# EAGLE library part PIC18(L)F26K22 (library PIC18)
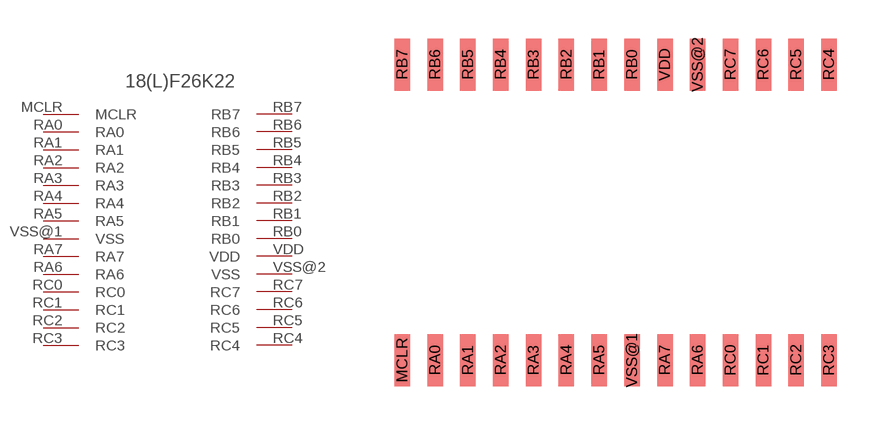
[diagram p0: symbol with the pads of 28-LEAD_SOIC; footprint 28-LEAD_SOIC]

Designator prefix -

## PIC18(L)F26K22  [28-LEAD_SOIC]
MCLR  MCLR  in
RA0  RA0
RA1  RA1
RA2  RA2
RA3  RA3
RA4  RA4
RA5  RA5
RA6  RA6
RA7  RA7
RB0  RB0
RB1  RB1
RB2  RB2
RB3  RB3
RB4  RB4
RB5  RB5
RB6  RB6
RB7  RB7
RC0  RC0
RC1  RC1
RC2  RC2
RC3  RC3
RC4  RC4
RC5  RC5
RC6  RC6
RC7  RC7
VDD  VDD  pwr
VSS@1  VSS  pwr
VSS@2  VSS  pwr

## Footprint 28-LEAD_SOIC (pad centres in mm)
smd 0.6 x 2: MCLR 0,0; RA0 1.27,0; RA1 2.54,0; RA2 3.81,0; RA3 5.08,0; RA4 6.35,0; RA5 7.62,0; RA6 11.43,0; RA7 10.16,0; RB0 8.89,11.43; RB1 7.62,11.43; RB2 6.35,11.43; RB3 5.08,11.43; RB4 3.81,11.43; RB5 2.54,11.43; RB6 1.27,11.43; RB7 0,11.43; RC0 12.7,0; RC1 13.97,0; RC2 15.24,0; RC3 16.51,0; RC4 16.51,11.43; RC5 15.24,11.43; RC6 13.97,11.43; RC7 12.7,11.43; VDD 10.16,11.43; VSS@1 8.89,0; VSS@2 11.43,11.43